# Altium footprint library МЦТР.00010592.00.002.PcbLib: 24 footprints (part 1 of 2)
Each footprint in its own frame and in the unit in brackets; x right, y up, seen from the top. Pads: shape width x height; smd on the part's side, far side on the other; paste and mask are expansions set on the pad; w line width, h text height; cw(c..) or ccw(c..) is an arc to the next point about the centre after c.
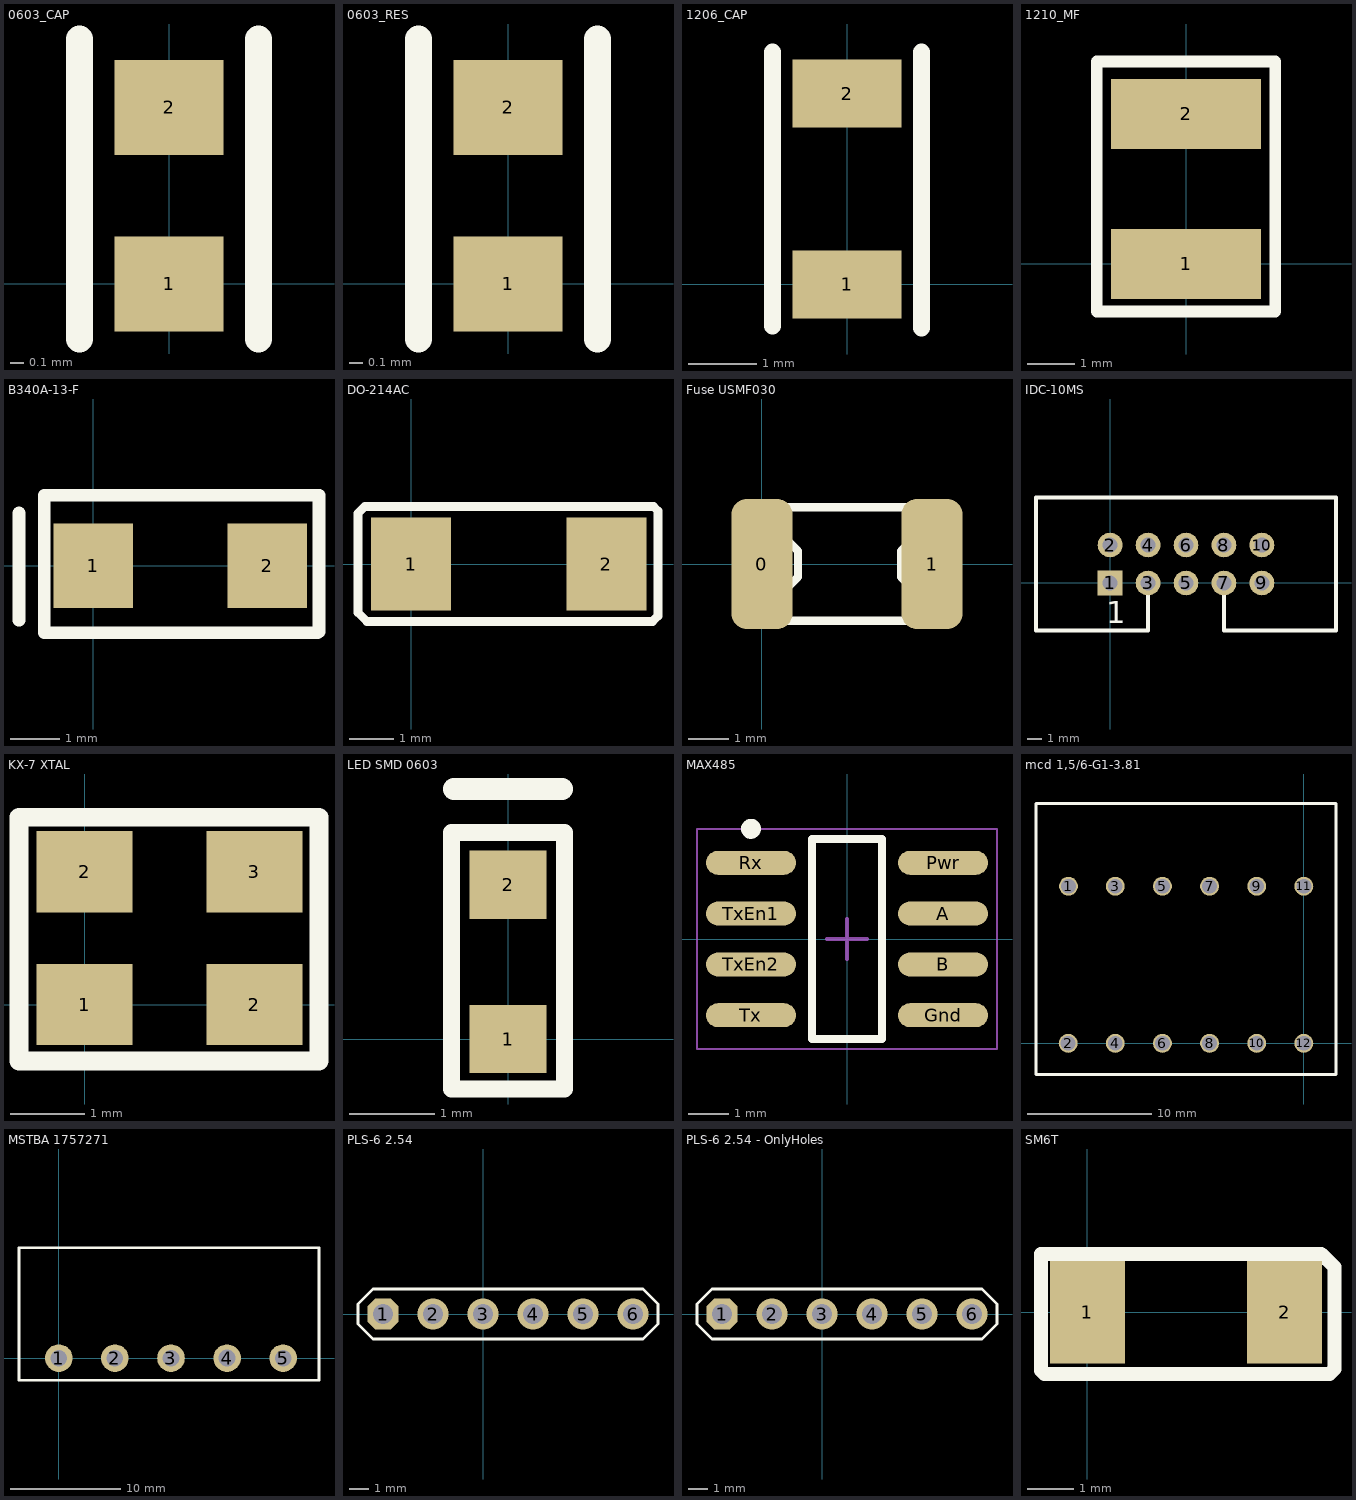
[diagram p0: the footprints below, top view; thin cyan lines are the x and y axes]

## 0603_CAP [mm]
height 1
pads (2):
  rect 0.8x0.7 smd mask+0.102: 1(0,0) 2(0,1.3)
Top Overlay:
  lines w0.2: -0.66,-0.406 -0.66,1.803 ; 0.66,-0.406 0.66,1.803
3D body "0603_CAP.STEP": height 0.9, standoff 0, extent -0.4,-0.165 0.4,1.435

## 0603_RES [mm]
height 1
pads (2):
  rect 0.8x0.7 smd mask+0.102: 1(0,0) 2(0,1.3)
Top Overlay:
  lines w0.2: -0.66,-0.406 -0.66,1.803 ; 0.66,-0.406 0.66,1.803
3D body "0603+RES.STEP": height 0.55, standoff 0, extent -0.4,-0.165 0.4,1.435

## 1206_CAP [mm]
height 2
pads (2):
  rect 1.6x1 smd: 1(0,0) 2(0,2.8)
Top Overlay:
  lines w0.254: -1.092,-0.61 -1.092,3.404 ; 1.092,-0.635 1.092,3.404
3D body "1206_CAP.STEP": height 1.8, standoff 0, extent -0.8,-0.076 0.8,3.124

## 1210_MF [mm]
height 2
pads (2):
  rect 3.2x1.5 smd: 1(0,0) 2(0,3.2)
Top Overlay:
  lines w0.254: -1.905,-1.016 1.905,-1.016 1.905,4.318 -1.905,4.318 -1.905,-1.016
3D body "0ZCH0050FF2G.STEP": height 1.2, standoff 0, extent -1.288,-0.083 1.287,3.132

## B340A-13-F [mm]
height 2
pads (2):
  rect 1.6x1.7 smd: 1(0,0) 2(3.5,0)
Top Overlay:
  lines w0.254: -1.499,-1.092 -1.499,1.067 ; 4.521,-1.346 -0.991,-1.346 -0.991,1.422 4.547,1.422 4.547,-1.327
3D body "B360A-13-F.STEP": height 2.62, standoff 0, extent -1.046,-1.407 4.094,1.153

## DO-214AC [mm]
pads (2):
  rect 1.8x2.1 smd: 1(0,0) 2(4.4,0)
Top Overlay:
  lines w0.2: -1.194,-1.092 -0.991,-1.295 5.436,-1.295 5.563,-1.168 5.563,1.194 5.461,1.295 -1.041,1.295 -1.194,1.143 -1.194,-1.092
3D body "DO-214.STEP": height 2.4, standoff 0, extent -0.319,-1.302 4.891,1.303

## Fuse USMF030 [mm]
height 2
pads (2):
  rrect50% 1.5x3.2 smd: 0(0,0) 1(4.191,0)
Top Overlay:
  lines w0.2: 0.508,-1.397 3.81,-1.397 3.81,-0.699 3.429,-0.318 3.429,0.318 3.81,0.699 3.81,1.397 0.508,1.397 0.508,0.699 0.889,0.318 0.889,-0.318 0.508,-0.699 0.508,-1.397
3D body "MF-MSMF030-2.STEP": height 0.85, standoff 0, extent -0.243,-1.62 4.307,1.62

## IDC-10MS [mm]
pads (10):
  rect 1.65x1.65 hole 1: 1(0,0)
  round 1.65 hole 1: 2(0,2.54) 3(2.54,0) 4(2.54,2.54) 5(5.08,0) 6(5.08,2.54) 7(7.62,0) 8(7.62,2.54) 9(10.16,0) 10(10.16,2.54)
Top Overlay:
  lines w0.254: 2.54,-0.254 2.54,-3.175 -4.953,-3.175 -4.953,5.715 7.62,5.715 15.113,5.715 15.113,-3.175 7.62,-3.175 7.62,-0.254
  text "1" at -0.25,-2.7 h1.5
3D body "IDC-10.STEP": height 9.1, standoff -3.1, extent -4.943,-3.28 15.357,5.82

## KX-7 XTAL [mm]
height 1
pads (4):
  rect 1.3x1.1 smd: 1(0,0) 2(0,1.8) 2(2.3,0) 3(2.3,1.8)
Top Overlay:
  lines w0.254: -0.889,-0.762 3.175,-0.762 3.175,2.54 -0.889,2.54 -0.889,-0.762
3D body "KX7T.STEP": height 0.8, standoff 0, extent -0.457,-0.361 2.743,2.139

## LED SMD 0603 [mm]
height 1
pads (2):
  rect 0.9x0.8 smd mask+0.102: 1(0,0) 2(0,1.803)
Top Overlay:
  lines w0.2: -0.66,-0.584 0.66,-0.584 0.66,2.413 -0.66,2.413 -0.66,-0.584
  lines w0.254: -0.635,2.921 0.635,2.921
3D body "598-8060-102F.STEP": height 0.7, standoff 0, extent -0.4,0.089 0.4,1.689

## MAX485 [mm] "SOIC, 8-Leads, Body 4,90x3,90mm, Pitch 1,27mm, IPC Medium Density"
height 1.65
pads (8):
  oval 2.25x0.6 smd: A(2.4,0.635) B(2.4,-0.635) Gnd(2.4,-1.905) Pwr(2.4,1.905) Rx(-2.4,1.905) Tx(-2.4,-1.905) TxEn1(-2.4,0.635) TxEn2(-2.4,-0.635)
Top Overlay:
  circle w0.25: c-2.4,2.755 r0.125
  lines w0.2: -0.875,-2.5 -0.875,2.5 0.875,2.5 0.875,-2.5 -0.875,-2.5
Mechanical 15:
  lines w0.05: -3.75,-2.75 -3.75,2.75 3.75,2.75 3.75,-2.75 -3.75,-2.75
  lines w0.1: -0.5,0 0.5,0 ; 0,-0.5 0,0.5

## mcd 1,5/6-G1-3.81 [mil]
height 43.31
pads (12):
  round 60 hole 47.24: 1(-749,500) 2(-750,0) 3(-600,500) 4(-600,0) 5(-450,500) 6(-450,0) 7(-300,500) 8(-300,0) 9(-150,500) 10(-150,0) 11(0,500) 12(0,0)
Top Overlay:
  lines w10: -852.36,-98.43 -852.36,762.8 ; -852,762.8 102,763 ; -851.58,-99 102,-99 ; 102.36,-98.43 102.36,762.8
3D body "MCD 15.6-G1-3.81.STEP": height 893.7, standoff -137.8, extent -847.36,-45 107.36,817.2

## MSTBA 1757271 [mm]
height 8
pads (5):
  round 2.5 hole 1.5: 1(0,0) 2(5.08,0) 3(10.16,0) 5(20.32,0)
  round 2.5 hole 1.55: 4(15.24,0)
Top Overlay:
  lines w0.254: -3.6,-2 -3.6,10 23.56,10 23.56,-2 -3.6,-2
3D body "MSTBA-2.5-5-G-5.08.STEP": height 8.6, standoff -3.5, extent -3.524,-2.034 23.876,9.968

## PLS-6 2.54 [mm]
pads (6):
  oct 1.6x1.6 hole 1: 1(-5.08,0)
  round 1.6 hole 1: 2(-2.54,0) 3(0,0) 4(2.54,0) 5(5.08,0) 6(7.62,0)
Top Overlay:
  lines w0.15: -6.35,-0.508 -6.35,0.508 -5.588,1.27 8.128,1.27 8.89,0.508 8.89,-0.508 8.128,-1.27 -5.588,-1.27 -6.35,-0.508
3D body "GPHB115-STP.STEP": height 2.97, standoff -3.95, extent -6.163,-3.81 8.957,1.27

## PLS-6 2.54 - OnlyHoles [mm]
pads (6):
  oct 1.6x1.6 hole 1: 1(-5.08,0)
  round 1.6 hole 1: 2(-2.54,0) 3(0,0) 4(2.54,0) 5(5.08,0) 6(7.62,0)
Top Overlay:
  lines w0.15: -6.35,-0.508 -5.588,-1.27 8.128,-1.27 8.89,-0.508 8.89,0.508 8.128,1.27 -5.588,1.27 -6.35,0.508 -6.35,-0.508

## SM6T [mm]
height 3
pads (2):
  rect 1.6x2.2 smd: 1(0,0) 2(4.22,0)
Top Overlay:
  lines w0.3: -0.991,-1.245 -0.991,1.245 5.004,1.245 5.283,0.965 5.283,-1.219 5.182,-1.321 -0.914,-1.321 -0.991,-1.245